# Altium footprint library Altium-RC.PcbLib: 36 footprints (part 3 of 3)
Each footprint in its own frame and in the unit in brackets; x right, y up, seen from the top. Pads: shape width x height; smd on the part's side, far side on the other; paste and mask are expansions set on the pad; w line width, h text height; cw(c..) or ccw(c..) is an arc to the next point about the centre after c.
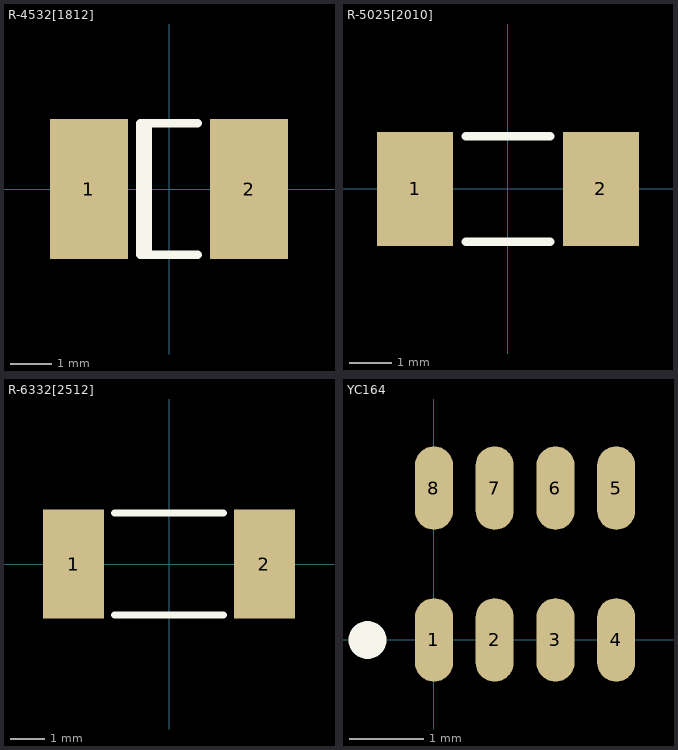
[diagram p2: the footprints below, top view; thin cyan lines are the x and y axes]

## R-4532[1812] [mm]
height 0.55
pads (2):
  rect 1.9x3.4 smd: 1(-1.95,0) 2(1.95,0)
Top Overlay:
  lines w0.2: -0.51,-1.6 -0.51,1.6 ; 0.7,-1.6 -0.7,-1.6 -0.7,1.6 0.7,1.6
3D body: height 0.6, standoff 0, extent -2.25,-1.6 2.25,1.6

## R-5025[2010] [mm]
height 0.55
pads (2):
  rect 1.8x2.7 smd: 1(-2.2,0) 2(2.2,0)
Top Overlay:
  lines w0.2: -1,-1.25 1,-1.25 ; -1,1.25 1,1.25
3D body: height 0.55, standoff 0, extent -2.8,-1.35 2.85,1.35

## R-6332[2512] [mm]
height 0.55
pads (2):
  rect 1.8x3.2 smd: 1(-2.8,0) 2(2.8,0)
Top Overlay:
  lines w0.2: -1.6,-1.5 1.6,-1.5 ; -1.6,1.5 1.6,1.5
3D body: height 0.5, standoff 0, extent -3.15,-1.575 3.2,1.575

## YC164 [mil]
height 21.65
pads (8):
  oval 20x44 smd: 1(0,0) 2(32,0) 3(64,0) 4(96,0) 5(96,80) 6(64,80) 7(32,80) 8(0,80)
Top Overlay:
  lines w10: -40,0 cw(c-35,0) -30,0 cw(c-35,0) -40,0
3D body: height 21.65, standoff 0, extent -14,-10 110,90